# Altium schematic symbol library CM4_Board.SchLib: 11 symbols
Pins are listed as number, name and electrical type; pins without a type are passive.

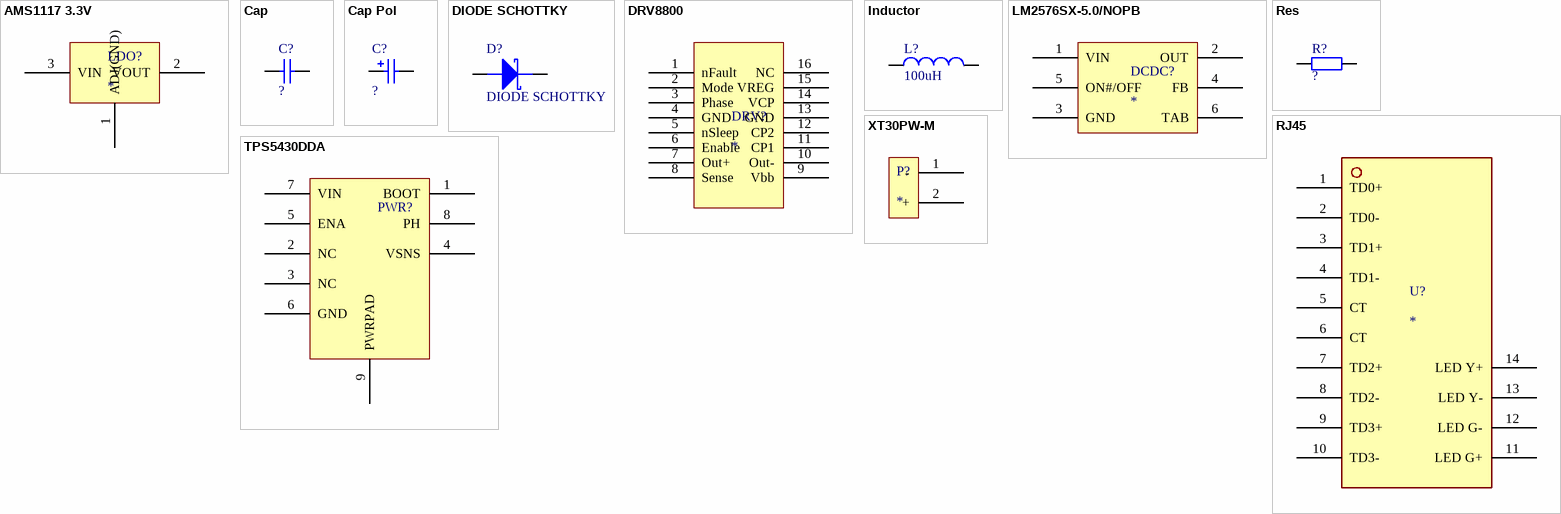
[diagram p0: symbols AMS1117 3.3V to XT30PW-M]

## AMS1117 3.3V
designator LDO?
footprint AMS117 (SOT223, 4-Leads, Body 6.50x7.00mm (avg), Pitch 2.30mm, IPC Low Density)
pins: 1 ADJ(GND), 2 VOUT, 3 VIN

## Cap
designator C?, comment ?
Capacitor; Published: 8-Jun-2000; LatestRevisionDate: 17-Jul-2002; LatestRevisionNote: Re-released for DXP Platform.; PackageReference: RAD-0.3; Publisher: Altium Limited; PackageDescription: Radial Cap, Thru-Hole; 2 Leads; 0.3 in Pin Spacing
simulation model CAP (Capacitor)
signal-integrity model Cap
footprint 0805 (SMD, 0805)
pins: 1, 2

## Cap Pol
designator C?, comment ?
Polarized Capacitor (Radial); Published: 8-Jun-2000; LatestRevisionDate: 17-Jul-2002; LatestRevisionNote: Re-released for DXP Platform.; PackageReference: RB7.6-15; Publisher: Altium Limited; PackageDescription: Polarized Capacitor (Radial); 2 Leads
simulation model CAP (Capacitor)
signal-integrity model Cap Pol
footprint Cap Pol 100uF
footprint Cap Pol 680uF
pins: 1, 2
1 alternate drawing of the same symbol

## DIODE SCHOTTKY
designator D?
肖特基二极管
footprint Schottky (DO-214AC)
pins: 1, 2

## DRV8800
designator DRV?
footprint DRV8800 (SOP, 16-Leads, Body 5.00x4.40mm, Pitch 0.65mm, Thermal Pad 3.00x3.00mm, IPC Low Density)
pins: 1 nFault, 2 Mode, 3 Phase, 4 GND, 5 nSleep, 6 Enable, 7 Out+, 8 Sense, 9 Vbb, 10 Out-, 11 CP1, 12 CP2, 13 GND, 14 VCP, 15 VREG, 16 NC

## Inductor
designator L?, comment 100uH
Inductor; Code_IEC: 1005; Published: 8-Jun-2000; LatestRevisionDate: 29-May-2009; LatestRevisionNote: IPC-7351 Footprint Added.; PackageReference: 0402-A; Publisher: Altium Limited; PackageDescription: Chip Inductor; Code_JEITA: 0402
simulation model INDUCTOR (Inductor)
signal-integrity model Inductor
footprint Inductor 100uH
pins: 1, 2

## LM2576SX-5.0/NOPB
designator DCDC?
footprint LM2576SX-5.0/NOPB
pins: 1 VIN, 2 OUT, 3 GND, 4 FB, 5 ON#/OFF, 6 TAB

## Res
designator R?, comment ?
Resistor; Published: 8-Jun-2000; LatestRevisionDate: 17-Jul-2002; LatestRevisionNote: Re-released for DXP Platform.; PackageReference: AXIAL-0.4; Publisher: Altium Limited; PackageDescription: Axial Device, Thru-Hole; 2 Leads; 0.4 in Pin Spacing
simulation model RESISTOR (Resistor)
signal-integrity model Res
footprint 0805 (SMD, 0805)
pins: 1, 2

## RJ45
designator U?
48F-01GY2DPL2NL
footprint RJ45 (48F-01GY2DPL2NL)
pins: 1 TD0+, 2 TD0-, 3 TD1+, 4 TD1-, 5 CT, 6 CT, 7 TD2+, 8 TD2-, 9 TD3+, 10 TD3-, 11 LED G+, 12 LED G-, 13 LED Y-, 14 LED Y+

## TPS5430DDA
designator PWR?
DCDC
footprint TPS5430 (SOIC, 8-Leads, Body 4.90x3.90mm, Pitch 1.27mm, Thermal Pad 3.10x2.60mm, IPC Low Density)
pins: 1 BOOT, 2 NC, 3 NC, 4 VSNS, 5 ENA, 6 GND, 7 VIN, 8 PH, 9 PWRPAD

## XT30PW-M
designator P?
footprint XT30PW-M
pins: 1 -, 2 +